# Altium footprint library IC_SMT.PcbLib: 81 footprints (part 5 of 6)
Each footprint in its own frame and in the unit in brackets; x right, y up, seen from the top. Pads: shape width x height; smd on the part's side, far side on the other; paste and mask are expansions set on the pad; w line width, h text height; cw(c..) or ccw(c..) is an arc to the next point about the centre after c.
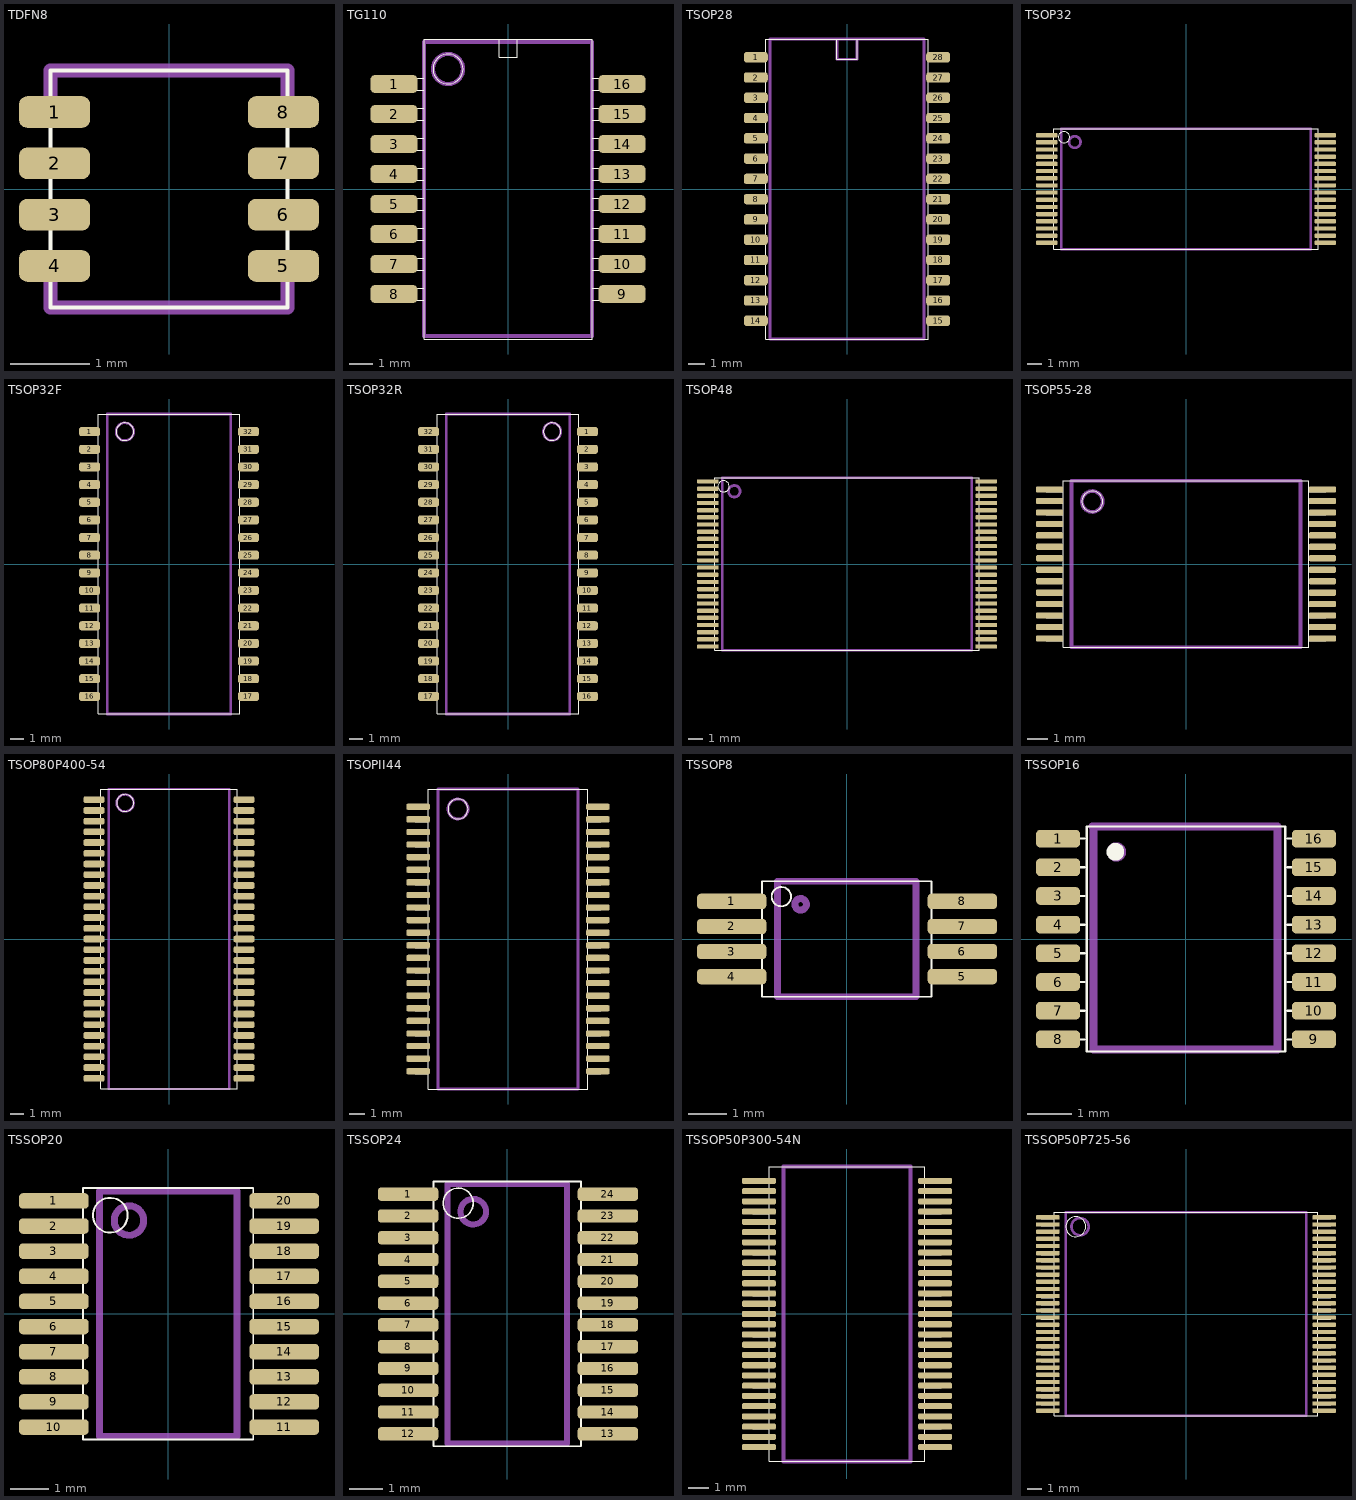
[diagram p4: the footprints below, top view; thin cyan lines are the x and y axes]

## TDFN8 [mm]
height 1.905
pads (8):
  rrect50% 0.9x0.4 smd paste+0: 1(-1.45,0.975) 2(-1.45,0.325) 3(-1.45,-0.325) 4(-1.45,-0.975) 5(1.45,-0.975) 6(1.45,-0.325) 7(1.45,0.325) 8(1.45,0.975)
Top Overlay:
  lines w0.05: -1.5,-1.5 1.5,-1.5 1.5,1.5 -1.5,1.5 -1.5,-1.5
Comp Silk:
  lines w0.18: -1.5,-1.2 -1.5,-1.5 1.5,-1.5 1.5,-1.2 ; -1.5,1.2 -1.5,1.5 1.5,1.5 1.5,1.2
  text ".Designator" at -1.397,0.381 h1.5

## TG110 [mm]
height 2.54
pads (16):
  rrect50% 2x0.75 smd paste+0: 1(-4.826,4.445) 2(-4.826,3.175) 3(-4.826,1.905) 4(-4.826,0.635) 5(-4.826,-0.635) 6(-4.826,-1.905) 7(-4.826,-3.175) 8(-4.826,-4.445) 9(4.826,-4.445) 10(4.826,-3.175) 11(4.826,-1.905) 12(4.826,-0.635) 13(4.826,0.635) 14(4.826,1.905) 15(4.826,3.175) 16(4.826,4.445)
Top Overlay:
  circle w0.05: c-2.54,5.08 r0.635
  lines w0.05: -3.556,-4.699 -4.826,-4.699 -4.826,-4.191 -3.556,-4.191 ; -3.556,-3.429 -4.826,-3.429 -4.826,-2.921 -3.556,-2.921 ; -3.556,-2.159 -4.826,-2.159 -4.826,-1.651 -3.556,-1.651 ; -3.556,-0.889 -4.826,-0.889 -4.826,-0.381 -3.556,-0.381 ; -3.556,0.381 -4.826,0.381 -4.826,0.889 -3.556,0.889 ; -3.556,1.651 -4.826,1.651 -4.826,2.159 -3.556,2.159 ; -3.556,2.921 -4.826,2.921 -4.826,3.429 -3.556,3.429 ; -3.556,4.191 -4.826,4.191 -4.826,4.699 -3.556,4.699 ; -0.381,6.35 -0.381,5.588 0.381,5.588 0.381,6.35 ; 3.556,-4.699 4.826,-4.699 4.826,-4.191 3.556,-4.191 ; 3.556,-3.429 4.826,-3.429 4.826,-2.921 3.556,-2.921 ; 3.556,-2.159 4.826,-2.159 4.826,-1.651 3.556,-1.651 ; 3.556,-0.889 4.826,-0.889 4.826,-0.381 3.556,-0.381 ; 3.556,0.381 4.826,0.381 4.826,0.889 3.556,0.889 ; 3.556,1.651 4.826,1.651 4.826,2.159 3.556,2.159 ; 3.556,2.921 4.826,2.921 4.826,3.429 3.556,3.429 ; 3.556,4.191 4.826,4.191 4.826,4.699 3.556,4.699 ; -3.556,-6.35 -3.556,6.35 3.556,6.35 3.556,-6.35 -3.556,-6.35
Comp Silk:
  circle w0.18: c-2.54,5.08 r0.635
  lines w0.18: -3.556,-6.223 -3.556,6.223 3.556,6.223 3.556,-6.223 -3.556,-6.223
  text ".Designator" at -1.651,-5.334 h1.5

## TSOP28 [mm]
height 1.27
pads (28):
  rrect50% 1.5x0.65 smd paste+0: 1(-5.715,8.255) 2(-5.715,6.985) 3(-5.715,5.715) 4(-5.715,4.445) 5(-5.715,3.175) 6(-5.715,1.905) 7(-5.715,0.635) 8(-5.715,-0.635) 9(-5.715,-1.905) 10(-5.715,-3.175) 11(-5.715,-4.445) 12(-5.715,-5.715) 13(-5.715,-6.985) 14(-5.715,-8.255) 15(5.715,-8.255) 16(5.715,-6.985) 17(5.715,-5.715) 18(5.715,-4.445) 19(5.715,-3.175) 20(5.715,-1.905) 21(5.715,-0.635) 22(5.715,0.635) 23(5.715,1.905) 24(5.715,3.175) 25(5.715,4.445) 26(5.715,5.715) 27(5.715,6.985) 28(5.715,8.255)
Top Overlay:
  lines w0.05: -5.08,-8.458 -5.969,-8.458 -5.969,-8.052 -5.08,-8.052 ; -5.08,-7.188 -5.969,-7.188 -5.969,-6.782 -5.08,-6.782 ; -5.08,-5.918 -5.969,-5.918 -5.969,-5.512 -5.08,-5.512 ; -5.08,-4.648 -5.969,-4.648 -5.969,-4.242 -5.08,-4.242 ; -5.08,-3.378 -5.969,-3.378 -5.969,-2.972 -5.08,-2.972 ; -5.08,-2.108 -5.969,-2.108 -5.969,-1.702 -5.08,-1.702 ; -5.08,-0.838 -5.969,-0.838 -5.969,-0.432 -5.08,-0.432 ; -5.08,0.432 -5.969,0.432 -5.969,0.838 -5.08,0.838 ; -5.08,1.702 -5.969,1.702 -5.969,2.108 -5.08,2.108 ; -5.08,2.972 -5.969,2.972 -5.969,3.378 -5.08,3.378 ; -5.08,4.242 -5.969,4.242 -5.969,4.648 -5.08,4.648 ; -5.08,5.512 -5.969,5.512 -5.969,5.918 -5.08,5.918 ; -5.08,6.782 -5.969,6.782 -5.969,7.188 -5.08,7.188 ; -5.08,8.052 -5.969,8.052 -5.969,8.458 -5.08,8.458 ; -0.635,9.398 -0.635,8.128 0.635,8.128 0.635,9.398 ; 5.08,-8.458 5.969,-8.458 5.969,-8.052 5.08,-8.052 ; 5.08,-7.188 5.969,-7.188 5.969,-6.782 5.08,-6.782 ; 5.08,-5.918 5.969,-5.918 5.969,-5.512 5.08,-5.512 ; 5.08,-4.648 5.969,-4.648 5.969,-4.242 5.08,-4.242 ; 5.08,-3.378 5.969,-3.378 5.969,-2.972 5.08,-2.972 ; 5.08,-2.108 5.969,-2.108 5.969,-1.702 5.08,-1.702 ; 5.08,-0.838 5.969,-0.838 5.969,-0.432 5.08,-0.432 ; 5.08,0.432 5.969,0.432 5.969,0.838 5.08,0.838 ; 5.08,1.702 5.969,1.702 5.969,2.108 5.08,2.108 ; 5.08,2.972 5.969,2.972 5.969,3.378 5.08,3.378 ; 5.08,4.242 5.969,4.242 5.969,4.648 5.08,4.648 ; 5.08,5.512 5.969,5.512 5.969,5.918 5.08,5.918 ; 5.08,6.782 5.969,6.782 5.969,7.188 5.08,7.188 ; 5.08,8.052 5.969,8.052 5.969,8.458 5.08,8.458 ; -5.08,-9.398 -5.08,9.398 5.08,9.398 5.08,-9.398 -5.08,-9.398
Comp Silk:
  lines w0.18: -0.635,9.398 -0.635,8.128 0.635,8.128 0.635,9.398 ; -4.826,-9.398 -4.826,9.398 4.826,9.398 4.826,-9.398 -4.826,-9.398
  text ".Designator" at -2.921,-8.128 h1.5

## TSOP32 [mm]
height 1.27
pads (32):
  rrect50% 1.5x0.3 smd paste+0: 1(-9.7,3.75) 2(-9.7,3.25) 3(-9.7,2.75) 4(-9.7,2.25) 5(-9.7,1.75) 6(-9.7,1.25) 7(-9.7,0.75) 8(-9.7,0.25) 9(-9.7,-0.25) 10(-9.7,-0.75) 11(-9.7,-1.25) 12(-9.7,-1.75) 13(-9.7,-2.25) 14(-9.7,-2.75) 15(-9.7,-3.25) 16(-9.7,-3.75) 17(9.7,-3.75) 18(9.7,-3.25) 19(9.7,-2.75) 20(9.7,-2.25) 21(9.7,-1.75) 22(9.7,-1.25) 23(9.7,-0.75) 24(9.7,-0.25) 25(9.7,0.25) 26(9.7,0.75) 27(9.7,1.25) 28(9.7,1.75) 29(9.7,2.25) 30(9.7,2.75) 31(9.7,3.25) 32(9.7,3.75)
Top Overlay:
  lines w0.05: -9.2,-3.8 -9.8,-3.8 -9.8,-3.7 -9.2,-3.7 ; -9.2,-3.3 -9.8,-3.3 -9.8,-3.2 -9.2,-3.2 ; -9.2,-2.8 -9.8,-2.8 -9.8,-2.7 -9.2,-2.7 ; -9.2,-2.3 -9.8,-2.3 -9.8,-2.2 -9.2,-2.2 ; -9.2,-1.8 -9.8,-1.8 -9.8,-1.7 -9.2,-1.7 ; -9.2,-1.3 -9.8,-1.3 -9.8,-1.2 -9.2,-1.2 ; -9.2,-0.8 -9.8,-0.8 -9.8,-0.7 -9.2,-0.7 ; -9.2,-0.3 -9.8,-0.3 -9.8,-0.2 -9.2,-0.2 ; -9.2,0.2 -9.8,0.2 -9.8,0.3 -9.2,0.3 ; -9.2,0.7 -9.8,0.7 -9.8,0.8 -9.2,0.8 ; -9.2,1.2 -9.8,1.2 -9.8,1.3 -9.2,1.3 ; -9.2,1.7 -9.8,1.7 -9.8,1.8 -9.2,1.8 ; -9.2,2.2 -9.8,2.2 -9.8,2.3 -9.2,2.3 ; -9.2,2.7 -9.8,2.7 -9.8,2.8 -9.2,2.8 ; -9.2,3.2 -9.8,3.2 -9.8,3.3 -9.2,3.3 ; -9.2,3.7 -9.8,3.7 -9.8,3.8 -9.2,3.8 ; -8.9,3.6 cw(c-8.5,3.6) -8.1,3.6 ; -8.896,3.62 ccw(c-8.496,3.62) -8.096,3.62 ; 9.2,-3.8 9.8,-3.8 9.8,-3.7 9.2,-3.7 ; 9.2,-3.3 9.8,-3.3 9.8,-3.2 9.2,-3.2 ; 9.2,-2.8 9.8,-2.8 9.8,-2.7 9.2,-2.7 ; 9.2,-2.3 9.8,-2.3 9.8,-2.2 9.2,-2.2 ; 9.2,-1.8 9.8,-1.8 9.8,-1.7 9.2,-1.7 ; 9.2,-1.3 9.8,-1.3 9.8,-1.2 9.2,-1.2 ; 9.2,-0.8 9.8,-0.8 9.8,-0.7 9.2,-0.7 ; 9.2,-0.3 9.8,-0.3 9.8,-0.2 9.2,-0.2 ; 9.2,0.2 9.8,0.2 9.8,0.3 9.2,0.3 ; 9.2,0.7 9.8,0.7 9.8,0.8 9.2,0.8 ; 9.2,1.2 9.8,1.2 9.8,1.3 9.2,1.3 ; 9.2,1.7 9.8,1.7 9.8,1.8 9.2,1.8 ; 9.2,2.2 9.8,2.2 9.8,2.3 9.2,2.3 ; 9.2,2.7 9.8,2.7 9.8,2.8 9.2,2.8 ; 9.2,3.2 9.8,3.2 9.8,3.3 9.2,3.3 ; 9.2,3.7 9.8,3.7 9.8,3.8 9.2,3.8 ; -9.2,-4.2 9.2,-4.2 9.2,4.2 -9.2,4.2 -9.2,-4.2
Comp Silk:
  lines w0.18: -8.151,3.265 ccw(c-7.751,3.265) -7.351,3.265 ; -8.146,3.27 cw(c-7.746,3.27) -7.346,3.27 ; -8.7,-4.2 8.7,-4.2 8.7,4.2 -8.7,4.2 -8.7,-4.2
  text ".Designator" at -6.35,2.54 h1.5

## TSOP32F [mm]
height 1.27
pads (32):
  rrect50% 1.5x0.65 smd paste+0: 1(-5.715,9.525) 2(-5.715,8.255) 3(-5.715,6.985) 4(-5.715,5.715) 5(-5.715,4.445) 6(-5.715,3.175) 7(-5.715,1.905) 8(-5.715,0.635) 9(-5.715,-0.635) 10(-5.715,-1.905) 11(-5.715,-3.175) 12(-5.715,-4.445) 13(-5.715,-5.715) 14(-5.715,-6.985) 15(-5.715,-8.255) 16(-5.715,-9.525) 17(5.715,-9.525) 18(5.715,-8.255) 19(5.715,-6.985) 20(5.715,-5.715) 21(5.715,-4.445) 22(5.715,-3.175) 23(5.715,-1.905) 24(5.715,-0.635) 25(5.715,0.635) 26(5.715,1.905) 27(5.715,3.175) 28(5.715,4.445) 29(5.715,5.715) 30(5.715,6.985) 31(5.715,8.255) 32(5.715,9.525)
Top Overlay:
  circle w0.05: c-3.175,9.525 r0.635
  lines w0.05: -5.08,-9.728 -5.969,-9.728 -5.969,-9.322 -5.08,-9.322 ; -5.08,-8.458 -5.969,-8.458 -5.969,-8.052 -5.08,-8.052 ; -5.08,-7.188 -5.969,-7.188 -5.969,-6.782 -5.08,-6.782 ; -5.08,-5.918 -5.969,-5.918 -5.969,-5.512 -5.08,-5.512 ; -5.08,-4.648 -5.969,-4.648 -5.969,-4.242 -5.08,-4.242 ; -5.08,-3.378 -5.969,-3.378 -5.969,-2.972 -5.08,-2.972 ; -5.08,-2.108 -5.969,-2.108 -5.969,-1.702 -5.08,-1.702 ; -5.08,-0.838 -5.969,-0.838 -5.969,-0.432 -5.08,-0.432 ; -5.08,0.432 -5.969,0.432 -5.969,0.838 -5.08,0.838 ; -5.08,1.702 -5.969,1.702 -5.969,2.108 -5.08,2.108 ; -5.08,2.972 -5.969,2.972 -5.969,3.378 -5.08,3.378 ; -5.08,4.242 -5.969,4.242 -5.969,4.648 -5.08,4.648 ; -5.08,5.512 -5.969,5.512 -5.969,5.918 -5.08,5.918 ; -5.08,6.782 -5.969,6.782 -5.969,7.188 -5.08,7.188 ; -5.08,8.052 -5.969,8.052 -5.969,8.458 -5.08,8.458 ; -5.08,9.322 -5.969,9.322 -5.969,9.728 -5.08,9.728 ; 5.08,-9.728 5.969,-9.728 5.969,-9.322 5.08,-9.322 ; 5.08,-8.458 5.969,-8.458 5.969,-8.052 5.08,-8.052 ; 5.08,-7.188 5.969,-7.188 5.969,-6.782 5.08,-6.782 ; 5.08,-5.918 5.969,-5.918 5.969,-5.512 5.08,-5.512 ; 5.08,-4.648 5.969,-4.648 5.969,-4.242 5.08,-4.242 ; 5.08,-3.378 5.969,-3.378 5.969,-2.972 5.08,-2.972 ; 5.08,-2.108 5.969,-2.108 5.969,-1.702 5.08,-1.702 ; 5.08,-0.838 5.969,-0.838 5.969,-0.432 5.08,-0.432 ; 5.08,0.432 5.969,0.432 5.969,0.838 5.08,0.838 ; 5.08,1.702 5.969,1.702 5.969,2.108 5.08,2.108 ; 5.08,2.972 5.969,2.972 5.969,3.378 5.08,3.378 ; 5.08,4.242 5.969,4.242 5.969,4.648 5.08,4.648 ; 5.08,5.512 5.969,5.512 5.969,5.918 5.08,5.918 ; 5.08,6.782 5.969,6.782 5.969,7.188 5.08,7.188 ; 5.08,8.052 5.969,8.052 5.969,8.458 5.08,8.458 ; 5.08,9.322 5.969,9.322 5.969,9.728 5.08,9.728 ; -5.08,-10.795 -5.08,10.795 5.08,10.795 5.08,-10.795 -5.08,-10.795
Comp Silk:
  circle w0.18: c-3.175,9.525 r0.635
  lines w0.18: -4.445,-10.795 -4.445,10.795 4.445,10.795 4.445,-10.795 -4.445,-10.795
  text ".Designator" at -2.413,-7.366 h1.5

## TSOP32R [mm]
height 1.27
pads (32):
  rrect50% 1.5x0.65 smd paste+0: 1(5.715,9.525) 2(5.715,8.255) 3(5.715,6.985) 4(5.715,5.715) 5(5.715,4.445) 6(5.715,3.175) 7(5.715,1.905) 8(5.715,0.635) 9(5.715,-0.635) 10(5.715,-1.905) 11(5.715,-3.175) 12(5.715,-4.445) 13(5.715,-5.715) 14(5.715,-6.985) 15(5.715,-8.255) 16(5.715,-9.525) 17(-5.715,-9.525) 18(-5.715,-8.255) 19(-5.715,-6.985) 20(-5.715,-5.715) 21(-5.715,-4.445) 22(-5.715,-3.175) 23(-5.715,-1.905) 24(-5.715,-0.635) 25(-5.715,0.635) 26(-5.715,1.905) 27(-5.715,3.175) 28(-5.715,4.445) 29(-5.715,5.715) 30(-5.715,6.985) 31(-5.715,8.255) 32(-5.715,9.525)
Top Overlay:
  circle w0.05: c3.175,9.525 r0.635
  lines w0.05: -5.08,-9.728 -5.969,-9.728 -5.969,-9.322 -5.08,-9.322 ; -5.08,-8.458 -5.969,-8.458 -5.969,-8.052 -5.08,-8.052 ; -5.08,-7.188 -5.969,-7.188 -5.969,-6.782 -5.08,-6.782 ; -5.08,-5.918 -5.969,-5.918 -5.969,-5.512 -5.08,-5.512 ; -5.08,-4.648 -5.969,-4.648 -5.969,-4.242 -5.08,-4.242 ; -5.08,-3.378 -5.969,-3.378 -5.969,-2.972 -5.08,-2.972 ; -5.08,-2.108 -5.969,-2.108 -5.969,-1.702 -5.08,-1.702 ; -5.08,-0.838 -5.969,-0.838 -5.969,-0.432 -5.08,-0.432 ; -5.08,0.432 -5.969,0.432 -5.969,0.838 -5.08,0.838 ; -5.08,1.702 -5.969,1.702 -5.969,2.108 -5.08,2.108 ; -5.08,2.972 -5.969,2.972 -5.969,3.378 -5.08,3.378 ; -5.08,4.242 -5.969,4.242 -5.969,4.648 -5.08,4.648 ; -5.08,5.512 -5.969,5.512 -5.969,5.918 -5.08,5.918 ; -5.08,6.782 -5.969,6.782 -5.969,7.188 -5.08,7.188 ; -5.08,8.052 -5.969,8.052 -5.969,8.458 -5.08,8.458 ; -5.08,9.322 -5.969,9.322 -5.969,9.728 -5.08,9.728 ; 5.08,-9.728 5.969,-9.728 5.969,-9.322 5.08,-9.322 ; 5.08,-8.458 5.969,-8.458 5.969,-8.052 5.08,-8.052 ; 5.08,-7.188 5.969,-7.188 5.969,-6.782 5.08,-6.782 ; 5.08,-5.918 5.969,-5.918 5.969,-5.512 5.08,-5.512 ; 5.08,-4.648 5.969,-4.648 5.969,-4.242 5.08,-4.242 ; 5.08,-3.378 5.969,-3.378 5.969,-2.972 5.08,-2.972 ; 5.08,-2.108 5.969,-2.108 5.969,-1.702 5.08,-1.702 ; 5.08,-0.838 5.969,-0.838 5.969,-0.432 5.08,-0.432 ; 5.08,0.432 5.969,0.432 5.969,0.838 5.08,0.838 ; 5.08,1.702 5.969,1.702 5.969,2.108 5.08,2.108 ; 5.08,2.972 5.969,2.972 5.969,3.378 5.08,3.378 ; 5.08,4.242 5.969,4.242 5.969,4.648 5.08,4.648 ; 5.08,5.512 5.969,5.512 5.969,5.918 5.08,5.918 ; 5.08,6.782 5.969,6.782 5.969,7.188 5.08,7.188 ; 5.08,8.052 5.969,8.052 5.969,8.458 5.08,8.458 ; 5.08,9.322 5.969,9.322 5.969,9.728 5.08,9.728 ; -5.08,-10.795 5.08,-10.795 5.08,10.795 -5.08,10.795 -5.08,-10.795
Comp Silk:
  circle w0.18: c3.175,9.525 r0.635
  lines w0.18: -4.445,-10.795 4.445,-10.795 4.445,10.795 -4.445,10.795 -4.445,-10.795
  text ".Designator" at -2.286,-8.509 h1.5

## TSOP48 [mm]
height 1.27
pads (48):
  rrect50% 1.5x0.3 smd paste+0: 1(-9.7,5.75) 2(-9.7,5.25) 3(-9.7,4.75) 4(-9.7,4.25) 5(-9.7,3.75) 6(-9.7,3.25) 7(-9.7,2.75) 8(-9.7,2.25) 9(-9.7,1.75) 10(-9.7,1.25) 11(-9.7,0.75) 12(-9.7,0.25) 13(-9.7,-0.25) 14(-9.7,-0.75) 15(-9.7,-1.25) 16(-9.7,-1.75) 17(-9.7,-2.25) 18(-9.7,-2.75) 19(-9.7,-3.25) 20(-9.7,-3.75) 21(-9.7,-4.25) 22(-9.7,-4.75) 23(-9.7,-5.25) 24(-9.7,-5.75) 25(9.7,-5.75) 26(9.7,-5.25) 27(9.7,-4.75) 28(9.7,-4.25) 29(9.7,-3.75) 30(9.7,-3.25) 31(9.7,-2.75) 32(9.7,-2.25) 33(9.7,-1.75) 34(9.7,-1.25) 35(9.7,-0.75) 36(9.7,-0.25) 37(9.7,0.25) 38(9.7,0.75) 39(9.7,1.25) 40(9.7,1.75) 41(9.7,2.25) 42(9.7,2.75) 43(9.7,3.25) 44(9.7,3.75) 45(9.7,4.25) 46(9.7,4.75) 47(9.7,5.25) 48(9.7,5.75)
Top Overlay:
  lines w0.05: -9.2,-5.8 -9.8,-5.8 -9.8,-5.7 -9.2,-5.7 ; -9.2,-5.3 -9.8,-5.3 -9.8,-5.2 -9.2,-5.2 ; -9.2,-4.8 -9.8,-4.8 -9.8,-4.7 -9.2,-4.7 ; -9.2,-4.3 -9.8,-4.3 -9.8,-4.2 -9.2,-4.2 ; -9.2,-3.8 -9.8,-3.8 -9.8,-3.7 -9.2,-3.7 ; -9.2,-3.3 -9.8,-3.3 -9.8,-3.2 -9.2,-3.2 ; -9.2,-2.8 -9.8,-2.8 -9.8,-2.7 -9.2,-2.7 ; -9.2,-2.3 -9.8,-2.3 -9.8,-2.2 -9.2,-2.2 ; -9.2,-1.8 -9.8,-1.8 -9.8,-1.7 -9.2,-1.7 ; -9.2,-1.3 -9.8,-1.3 -9.8,-1.2 -9.2,-1.2 ; -9.2,-0.8 -9.8,-0.8 -9.8,-0.7 -9.2,-0.7 ; -9.2,-0.3 -9.8,-0.3 -9.8,-0.2 -9.2,-0.2 ; -9.2,0.2 -9.8,0.2 -9.8,0.3 -9.2,0.3 ; -9.2,0.7 -9.8,0.7 -9.8,0.8 -9.2,0.8 ; -9.2,1.2 -9.8,1.2 -9.8,1.3 -9.2,1.3 ; -9.2,1.7 -9.8,1.7 -9.8,1.8 -9.2,1.8 ; -9.2,2.2 -9.8,2.2 -9.8,2.3 -9.2,2.3 ; -9.2,2.7 -9.8,2.7 -9.8,2.8 -9.2,2.8 ; -9.2,3.2 -9.8,3.2 -9.8,3.3 -9.2,3.3 ; -9.2,3.7 -9.8,3.7 -9.8,3.8 -9.2,3.8 ; -9.2,4.2 -9.8,4.2 -9.8,4.3 -9.2,4.3 ; -9.2,4.7 -9.8,4.7 -9.8,4.8 -9.2,4.8 ; -9.2,5.2 -9.8,5.2 -9.8,5.3 -9.2,5.3 ; -9.2,5.7 -9.8,5.7 -9.8,5.8 -9.2,5.8 ; -9,5.4 cw(c-8.6,5.4) -8.2,5.4 ; -8.996,5.42 ccw(c-8.596,5.42) -8.196,5.42 ; 9.2,-5.8 9.8,-5.8 9.8,-5.7 9.2,-5.7 ; 9.2,-5.3 9.8,-5.3 9.8,-5.2 9.2,-5.2 ; 9.2,-4.8 9.8,-4.8 9.8,-4.7 9.2,-4.7 ; 9.2,-4.3 9.8,-4.3 9.8,-4.2 9.2,-4.2 ; 9.2,-3.8 9.8,-3.8 9.8,-3.7 9.2,-3.7 ; 9.2,-3.3 9.8,-3.3 9.8,-3.2 9.2,-3.2 ; 9.2,-2.8 9.8,-2.8 9.8,-2.7 9.2,-2.7 ; 9.2,-2.3 9.8,-2.3 9.8,-2.2 9.2,-2.2 ; 9.2,-1.8 9.8,-1.8 9.8,-1.7 9.2,-1.7 ; 9.2,-1.3 9.8,-1.3 9.8,-1.2 9.2,-1.2 ; 9.2,-0.8 9.8,-0.8 9.8,-0.7 9.2,-0.7 ; 9.2,-0.3 9.8,-0.3 9.8,-0.2 9.2,-0.2 ; 9.2,0.2 9.8,0.2 9.8,0.3 9.2,0.3 ; 9.2,0.7 9.8,0.7 9.8,0.8 9.2,0.8 ; 9.2,1.2 9.8,1.2 9.8,1.3 9.2,1.3 ; 9.2,1.7 9.8,1.7 9.8,1.8 9.2,1.8 ; 9.2,2.2 9.8,2.2 9.8,2.3 9.2,2.3 ; 9.2,2.7 9.8,2.7 9.8,2.8 9.2,2.8 ; 9.2,3.2 9.8,3.2 9.8,3.3 9.2,3.3 ; 9.2,3.7 9.8,3.7 9.8,3.8 9.2,3.8 ; 9.2,4.2 9.8,4.2 9.8,4.3 9.2,4.3 ; 9.2,4.7 9.8,4.7 9.8,4.8 9.2,4.8 ; 9.2,5.2 9.8,5.2 9.8,5.3 9.2,5.3 ; 9.2,5.7 9.8,5.7 9.8,5.8 9.2,5.8 ; -9.2,-6 -9.2,6 9.2,6 9.2,-6 -9.2,-6
Comp Silk:
  lines w0.18: -8.251,5.065 ccw(c-7.851,5.065) -7.451,5.065 ; -8.246,5.07 cw(c-7.846,5.07) -7.446,5.07 ; -8.7,-6 8.7,-6 8.7,6 -8.7,6 -8.7,-6
  text ".Designator" at -6.477,3.937 h1.5

## TSOP55-28 [mm]
height 1.27
pads (28):
  rrect50% 1.3x0.3 smd paste+0: 1(-6.55,3.575) 2(-6.55,3.025) 3(-6.55,2.475) 4(-6.55,1.925) 5(-6.55,1.375) 6(-6.55,0.825) 7(-6.55,0.275) 8(-6.55,-0.275) 9(-6.55,-0.825) 10(-6.55,-1.375) 11(-6.55,-1.925) 12(-6.55,-2.475) 13(-6.55,-3.025) 14(-6.55,-3.575) 15(6.55,-3.575) 16(6.55,-3.025) 17(6.55,-2.475) 18(6.55,-1.925) 19(6.55,-1.375) 20(6.55,-0.825) 21(6.55,-0.275) 22(6.55,0.275) 23(6.55,0.825) 24(6.55,1.375) 25(6.55,1.925) 26(6.55,2.475) 27(6.55,3.025) 28(6.55,3.575)
Top Overlay:
  circle w0.05: c-4.5,3 r0.5
  lines w0.05: -5.9,-3.675 -6.7,-3.675 -6.7,-3.475 -5.9,-3.475 ; -5.9,-3.125 -6.7,-3.125 -6.7,-2.925 -5.9,-2.925 ; -5.9,-2.575 -6.7,-2.575 -6.7,-2.375 -5.9,-2.375 ; -5.9,-2.025 -6.7,-2.025 -6.7,-1.825 -5.9,-1.825 ; -5.9,-1.475 -6.7,-1.475 -6.7,-1.275 -5.9,-1.275 ; -5.9,-0.925 -6.7,-0.925 -6.7,-0.725 -5.9,-0.725 ; -5.9,-0.375 -6.7,-0.375 -6.7,-0.175 -5.9,-0.175 ; -5.9,0.175 -6.7,0.175 -6.7,0.375 -5.9,0.375 ; -5.9,0.725 -6.7,0.725 -6.7,0.925 -5.9,0.925 ; -5.9,1.275 -6.7,1.275 -6.7,1.475 -5.9,1.475 ; -5.9,1.825 -6.7,1.825 -6.7,2.025 -5.9,2.025 ; -5.9,2.375 -6.7,2.375 -6.7,2.575 -5.9,2.575 ; -5.9,2.925 -6.7,2.925 -6.7,3.125 -5.9,3.125 ; -5.9,3.475 -6.7,3.475 -6.7,3.675 -5.9,3.675 ; 5.9,-3.675 6.7,-3.675 6.7,-3.475 5.9,-3.475 ; 5.9,-3.125 6.7,-3.125 6.7,-2.925 5.9,-2.925 ; 5.9,-2.575 6.7,-2.575 6.7,-2.375 5.9,-2.375 ; 5.9,-2.025 6.7,-2.025 6.7,-1.825 5.9,-1.825 ; 5.9,-1.475 6.7,-1.475 6.7,-1.275 5.9,-1.275 ; 5.9,-0.925 6.7,-0.925 6.7,-0.725 5.9,-0.725 ; 5.9,-0.375 6.7,-0.375 6.7,-0.175 5.9,-0.175 ; 5.9,0.175 6.7,0.175 6.7,0.375 5.9,0.375 ; 5.9,0.725 6.7,0.725 6.7,0.925 5.9,0.925 ; 5.9,1.275 6.7,1.275 6.7,1.475 5.9,1.475 ; 5.9,1.825 6.7,1.825 6.7,2.025 5.9,2.025 ; 5.9,2.375 6.7,2.375 6.7,2.575 5.9,2.575 ; 5.9,2.925 6.7,2.925 6.7,3.125 5.9,3.125 ; 5.9,3.475 6.7,3.475 6.7,3.675 5.9,3.675 ; -5.9,-4 5.9,-4 5.9,4 -5.9,4 -5.9,-4
Comp Silk:
  circle w0.18: c-4.5,3 r0.5
  lines w0.18: -5.5,-4 5.5,-4 5.5,4 -5.5,4 -5.5,-4
  text ".Designator" at -5.08,1.905 h1.5

## TSOP80P400-54 [mm]
height 1.27
pads (54):
  rrect50% 1.55x0.5 smd paste+0: 1(-5.6,10.4) 2(-5.6,9.6) 3(-5.6,8.8) 4(-5.6,8) 5(-5.6,7.2) 6(-5.6,6.4) 7(-5.6,5.6) 8(-5.6,4.8) 9(-5.6,4) 10(-5.6,3.2) 11(-5.6,2.4) 12(-5.6,1.6) 13(-5.6,0.8) 14(-5.6,0) 15(-5.6,-0.8) 16(-5.6,-1.6) 17(-5.6,-2.4) 18(-5.6,-3.2) 19(-5.6,-4) 20(-5.6,-4.8) 21(-5.6,-5.6) 22(-5.6,-6.4) 23(-5.6,-7.2) 24(-5.6,-8) 25(-5.6,-8.8) 26(-5.6,-9.6) 27(-5.6,-10.4) 28(5.6,-10.4) 29(5.6,-9.6) 30(5.6,-8.8) 31(5.6,-8) 32(5.6,-7.2) 33(5.6,-6.4) 34(5.6,-5.6) 35(5.6,-4.8) 36(5.6,-4) 37(5.6,-3.2) 38(5.6,-2.4) 39(5.6,-1.6) 40(5.6,-0.8) 41(5.6,0) 42(5.6,0.8) 43(5.6,1.6) 44(5.6,2.4) 45(5.6,3.2) 46(5.6,4) 47(5.6,4.8) 48(5.6,5.6) 49(5.6,6.4) 50(5.6,7.2) 51(5.6,8) 52(5.6,8.8) 53(5.6,9.6) 54(5.6,10.4)
Top Overlay:
  drawing of 167 lines, arcs and shapes, not listed
Comp Silk:
  circle w0.18: c-3.275,10.155 r0.635
  lines w0.18: -4.5,-11.2 -4.5,11.2 4.5,11.2 4.5,-11.2 -4.5,-11.2
  text ".Designator" at -2.159,-6.604 h1.5

## TSOPII44 [mm]
height 1.905
pads (44):
  rrect50% 1.5x0.4 smd paste+0: 1(-5.7,8.4) 2(-5.7,7.6) 3(-5.7,6.8) 4(-5.7,6) 5(-5.7,5.2) 6(-5.7,4.4) 7(-5.7,3.6) 8(-5.7,2.8) 9(-5.7,2) 10(-5.7,1.2) 11(-5.7,0.4) 12(-5.7,-0.4) 13(-5.7,-1.2) 14(-5.7,-2) 15(-5.7,-2.8) 16(-5.7,-3.6) 17(-5.7,-4.4) 18(-5.7,-5.2) 19(-5.7,-6) 20(-5.7,-6.8) 21(-5.7,-7.6) 22(-5.7,-8.4) 23(5.7,-8.4) 24(5.7,-7.6) 25(5.7,-6.8) 26(5.7,-6) 27(5.7,-5.2) 28(5.7,-4.4) 29(5.7,-3.6) 30(5.7,-2.8) 31(5.7,-2) 32(5.7,-1.2) 33(5.7,-0.4) 34(5.7,0.4) 35(5.7,1.2) 36(5.7,2) 37(5.7,2.8) 38(5.7,3.6) 39(5.7,4.4) 40(5.7,5.2) 41(5.7,6) 42(5.7,6.8) 43(5.7,7.6) 44(5.7,8.4)
Top Overlay:
  circle w0.05: c-3.175,8.255 r0.635
  lines w0.05: -5.1,-8.55 -5.9,-8.55 -5.9,-8.25 -5.1,-8.25 ; -5.1,-7.75 -5.9,-7.75 -5.9,-7.45 -5.1,-7.45 ; -5.1,-6.95 -5.9,-6.95 -5.9,-6.65 -5.1,-6.65 ; -5.1,-6.15 -5.9,-6.15 -5.9,-5.85 -5.1,-5.85 ; -5.1,-5.35 -5.9,-5.35 -5.9,-5.05 -5.1,-5.05 ; -5.1,-4.55 -5.9,-4.55 -5.9,-4.25 -5.1,-4.25 ; -5.1,-3.75 -5.9,-3.75 -5.9,-3.45 -5.1,-3.45 ; -5.1,-2.95 -5.9,-2.95 -5.9,-2.65 -5.1,-2.65 ; -5.1,-2.15 -5.9,-2.15 -5.9,-1.85 -5.1,-1.85 ; -5.1,-1.35 -5.9,-1.35 -5.9,-1.05 -5.1,-1.05 ; -5.1,-0.55 -5.9,-0.55 -5.9,-0.25 -5.1,-0.25 ; -5.1,0.25 -5.9,0.25 -5.9,0.55 -5.1,0.55 ; -5.1,1.05 -5.9,1.05 -5.9,1.35 -5.1,1.35 ; -5.1,1.85 -5.9,1.85 -5.9,2.15 -5.1,2.15 ; -5.1,2.65 -5.9,2.65 -5.9,2.95 -5.1,2.95 ; -5.1,3.45 -5.9,3.45 -5.9,3.75 -5.1,3.75 ; -5.1,4.25 -5.9,4.25 -5.9,4.55 -5.1,4.55 ; -5.1,5.05 -5.9,5.05 -5.9,5.35 -5.1,5.35 ; -5.1,5.85 -5.9,5.85 -5.9,6.15 -5.1,6.15 ; -5.1,6.65 -5.9,6.65 -5.9,6.95 -5.1,6.95 ; -5.1,7.45 -5.9,7.45 -5.9,7.75 -5.1,7.75 ; -5.1,8.25 -5.9,8.25 -5.9,8.55 -5.1,8.55 ; 5.1,-8.55 5.9,-8.55 5.9,-8.25 5.1,-8.25 ; 5.1,-7.75 5.9,-7.75 5.9,-7.45 5.1,-7.45 ; 5.1,-6.95 5.9,-6.95 5.9,-6.65 5.1,-6.65 ; 5.1,-6.15 5.9,-6.15 5.9,-5.85 5.1,-5.85 ; 5.1,-5.35 5.9,-5.35 5.9,-5.05 5.1,-5.05 ; 5.1,-4.55 5.9,-4.55 5.9,-4.25 5.1,-4.25 ; 5.1,-3.75 5.9,-3.75 5.9,-3.45 5.1,-3.45 ; 5.1,-2.95 5.9,-2.95 5.9,-2.65 5.1,-2.65 ; 5.1,-2.15 5.9,-2.15 5.9,-1.85 5.1,-1.85 ; 5.1,-1.35 5.9,-1.35 5.9,-1.05 5.1,-1.05 ; 5.1,-0.55 5.9,-0.55 5.9,-0.25 5.1,-0.25 ; 5.1,0.25 5.9,0.25 5.9,0.55 5.1,0.55 ; 5.1,1.05 5.9,1.05 5.9,1.35 5.1,1.35 ; 5.1,1.85 5.9,1.85 5.9,2.15 5.1,2.15 ; 5.1,2.65 5.9,2.65 5.9,2.95 5.1,2.95 ; 5.1,3.45 5.9,3.45 5.9,3.75 5.1,3.75 ; 5.1,4.25 5.9,4.25 5.9,4.55 5.1,4.55 ; 5.1,5.05 5.9,5.05 5.9,5.35 5.1,5.35 ; 5.1,5.85 5.9,5.85 5.9,6.15 5.1,6.15 ; 5.1,6.65 5.9,6.65 5.9,6.95 5.1,6.95 ; 5.1,7.45 5.9,7.45 5.9,7.75 5.1,7.75 ; 5.1,8.25 5.9,8.25 5.9,8.55 5.1,8.55 ; -5.08,-9.525 -5.08,9.525 5.08,9.525 5.08,-9.525 -5.08,-9.525
Comp Silk:
  circle w0.18: c-3.175,8.255 r0.635
  lines w0.18: -4.445,-9.525 -4.445,9.525 4.445,9.525 4.445,-9.525 -4.445,-9.525
  text ".Designator" at -2.286,-7.493 h1.5

## TSSOP8 [mm]
height 1.27
pads (8):
  rrect50% 1.8x0.4 smd paste+0: 1(-2.99,0.975) 2(-2.99,0.325) 3(-2.99,-0.325) 4(-2.99,-0.975) 5(3,-0.975) 6(3,-0.325) 7(3,0.325) 8(3,0.975)
Top Overlay:
  circle w0.05: c-1.7,1.1 r0.25
  lines w0.05: -2.2,-1.075 -3.2,-1.075 -3.2,-0.875 -2.2,-0.875 ; -2.2,-0.425 -3.2,-0.425 -3.2,-0.225 -2.2,-0.225 ; -2.2,0.225 -3.2,0.225 -3.2,0.425 -2.2,0.425 ; -2.2,0.875 -3.2,0.875 -3.2,1.075 -2.2,1.075 ; 2.2,-1.075 3.2,-1.075 3.2,-0.875 2.2,-0.875 ; 2.2,-0.425 3.2,-0.425 3.2,-0.225 2.2,-0.225 ; 2.2,0.225 3.2,0.225 3.2,0.425 2.2,0.425 ; 2.2,0.875 3.2,0.875 3.2,1.075 2.2,1.075 ; -2.2,-1.5 -2.2,1.5 2.2,1.5 2.2,-1.5 -2.2,-1.5
Comp Silk:
  circle w0.18: c-1.2,0.9 r0.15
  lines w0.18: -1.8,-1.5 -1.8,1.5 1.8,1.5 1.8,-1.5 -1.8,-1.5
  text ".Designator" at -2.032,-0.254 h1.5

## TSSOP16 [mm]
height 1.2
pads (16):
  rrect50% 1x0.4 smd: 1(-2.9,2.275) 2(-2.9,1.625) 3(-2.9,0.975) 4(-2.9,0.325) 5(-2.9,-0.325) 6(-2.9,-0.975) 7(-2.9,-1.625) 8(-2.9,-2.275) 9(2.9,-2.275) 10(2.9,-1.625) 11(2.9,-0.975) 12(2.9,-0.325) 13(2.9,0.325) 14(2.9,0.975) 15(2.9,1.625) 16(2.9,2.275)
Top Overlay:
  circle w0.2: c-1.6,1.975 r0.1
  lines w0.05: -2.9,-2.275 -2.3,-2.275 ; -2.9,-1.625 -2.3,-1.625 ; -2.9,-0.975 -2.3,-0.975 ; -2.9,-0.325 -2.3,-0.325 ; -2.9,0.325 -2.3,0.325 ; -2.9,0.975 -2.3,0.975 ; -2.9,1.625 -2.3,1.625 ; -2.9,2.275 -2.3,2.275 ; 2.3,-2.275 2.95,-2.275 ; 2.3,-1.625 2.95,-1.625 ; 2.3,-0.975 2.95,-0.975 ; 2.3,-0.325 2.95,-0.325 ; 2.3,0.325 2.95,0.325 ; 2.3,0.975 2.95,0.975 ; 2.3,1.625 2.95,1.625 ; 2.3,2.275 2.95,2.275 ; -2.25,-2.55 -2.25,2.55 2.25,2.55 2.25,-2.55 -2.25,-2.55
  text ".Designator" at -1.575,-0.675 h1.5
Comp Silk:
  circle w0.254: c-1.575,1.975 r0.09
  lines w0.18: -2.125,2.55 2.075,2.55 2.075,-2.5 -2.1,-2.5 -2.1,2.55

## TSSOP20 [mm]
height 1.27
pads (20):
  rrect50% 1.8x0.4 smd paste+0: 1(-2.96,2.92) 2(-2.96,2.27) 3(-2.96,1.62) 4(-2.96,0.97) 5(-2.96,0.32) 6(-2.96,-0.33) 7(-2.96,-0.98) 8(-2.96,-1.63) 9(-2.96,-2.28) 10(-2.96,-2.93) 11(3,-2.93) 12(3,-2.28) 13(3,-1.63) 14(3,-0.98) 15(3,-0.33) 16(3,0.32) 17(3,0.97) 18(3,1.62) 19(3,2.27) 20(3,2.92)
Top Overlay:
  circle w0.05: c-1.5,2.55 r0.45
  lines w0.05: -2.2,-3.03 -3.2,-3.03 -3.2,-2.83 -2.2,-2.83 ; -2.2,-2.38 -3.2,-2.38 -3.2,-2.18 -2.2,-2.18 ; -2.2,-1.73 -3.2,-1.73 -3.2,-1.53 -2.2,-1.53 ; -2.2,-1.08 -3.2,-1.08 -3.2,-0.88 -2.2,-0.88 ; -2.2,-0.43 -3.2,-0.43 -3.2,-0.23 -2.2,-0.23 ; -2.2,0.22 -3.2,0.22 -3.2,0.42 -2.2,0.42 ; -2.2,0.87 -3.2,0.87 -3.2,1.07 -2.2,1.07 ; -2.2,1.52 -3.2,1.52 -3.2,1.72 -2.2,1.72 ; -2.2,2.17 -3.2,2.17 -3.2,2.37 -2.2,2.37 ; -2.2,2.82 -3.2,2.82 -3.2,3.02 -2.2,3.02 ; 2.2,-3.02 3.2,-3.02 3.2,-2.82 2.2,-2.82 ; 2.2,-2.37 3.2,-2.37 3.2,-2.17 2.2,-2.17 ; 2.2,-1.72 3.2,-1.72 3.2,-1.52 2.2,-1.52 ; 2.2,-1.07 3.2,-1.07 3.2,-0.87 2.2,-0.87 ; 2.2,-0.42 3.2,-0.42 3.2,-0.22 2.2,-0.22 ; 2.2,0.23 3.2,0.23 3.2,0.43 2.2,0.43 ; 2.2,0.88 3.2,0.88 3.2,1.08 2.2,1.08 ; 2.2,1.53 3.2,1.53 3.2,1.73 2.2,1.73 ; 2.2,2.18 3.2,2.18 3.2,2.38 2.2,2.38 ; 2.2,2.83 3.2,2.83 3.2,3.03 2.2,3.03 ; -2.2,-3.25 -2.2,3.25 2.2,3.25 2.2,-3.25 -2.2,-3.25
Comp Silk:
  circle w0.18: c-1.016,2.413 r0.381
  lines w0.18: -1.778,-3.175 -1.778,3.175 1.778,3.175 1.778,-3.175 -1.778,-3.175
  text ".Designator" at -0.127,-2.54 h1.5

## TSSOP24 [mm]
height 1.524
pads (24):
  rrect50% 1.8x0.4 smd: 1(-2.96,3.57) 2(-2.96,2.92) 3(-2.96,2.27) 4(-2.96,1.62) 5(-2.96,0.97) 6(-2.96,0.32) 7(-2.96,-0.33) 8(-2.96,-0.98) 9(-2.96,-1.63) 10(-2.96,-2.28) 11(-2.96,-2.93) 12(-2.96,-3.58) 13(3,-3.58) 14(3,-2.93) 15(3,-2.28) 16(3,-1.63) 17(3,-0.98) 18(3,-0.33) 19(3,0.32) 20(3,0.97) 21(3,1.62) 22(3,2.27) 23(3,2.92) 24(3,3.57)
Top Overlay:
  circle w0.05: c-1.466,3.302 r0.45
  lines w0.05: -2.2,-3.68 -3.2,-3.68 -3.2,-3.48 -2.2,-3.48 ; -2.2,-3.03 -3.2,-3.03 -3.2,-2.83 -2.2,-2.83 ; -2.2,-2.38 -3.2,-2.38 -3.2,-2.18 -2.2,-2.18 ; -2.2,-1.73 -3.2,-1.73 -3.2,-1.53 -2.2,-1.53 ; -2.2,-1.08 -3.2,-1.08 -3.2,-0.88 -2.2,-0.88 ; -2.2,-0.43 -3.2,-0.43 -3.2,-0.23 -2.2,-0.23 ; -2.2,0.22 -3.2,0.22 -3.2,0.42 -2.2,0.42 ; -2.2,0.87 -3.2,0.87 -3.2,1.07 -2.2,1.07 ; -2.2,1.52 -3.2,1.52 -3.2,1.72 -2.2,1.72 ; -2.2,2.17 -3.2,2.17 -3.2,2.37 -2.2,2.37 ; -2.2,2.82 -3.2,2.82 -3.2,3.02 -2.2,3.02 ; -2.2,3.47 -3.2,3.47 -3.2,3.67 -2.2,3.67 ; 2.2,-3.67 3.2,-3.67 3.2,-3.47 2.2,-3.47 ; 2.2,-3.02 3.2,-3.02 3.2,-2.82 2.2,-2.82 ; 2.2,-2.37 3.2,-2.37 3.2,-2.17 2.2,-2.17 ; 2.2,-1.72 3.2,-1.72 3.2,-1.52 2.2,-1.52 ; 2.2,-1.07 3.2,-1.07 3.2,-0.87 2.2,-0.87 ; 2.2,-0.42 3.2,-0.42 3.2,-0.22 2.2,-0.22 ; 2.2,0.23 3.2,0.23 3.2,0.43 2.2,0.43 ; 2.2,0.88 3.2,0.88 3.2,1.08 2.2,1.08 ; 2.2,1.53 3.2,1.53 3.2,1.73 2.2,1.73 ; 2.2,2.18 3.2,2.18 3.2,2.38 2.2,2.38 ; 2.2,2.83 3.2,2.83 3.2,3.03 2.2,3.03 ; 2.2,3.48 3.2,3.48 3.2,3.68 2.2,3.68 ; -2.2,-3.95 2.2,-3.95 2.2,3.95 -2.2,3.95 -2.2,-3.95
Comp Silk:
  circle w0.18: c-1.016,3.048 r0.381
  lines w0.18: -1.78,-3.87 1.78,-3.87 1.778,3.875 -1.778,3.875 -1.78,-3.87
  text ".Designator" at 0.762,-4.572 h1.5

## TSSOP50P300-54N [mm]
height 1.27
pads (54):
  rrect50% 1.65x0.3 smd paste+0: 1(-4.3,6.5) 2(-4.3,6) 3(-4.3,5.5) 4(-4.3,5) 5(-4.3,4.5) 6(-4.3,4) 7(-4.3,3.5) 8(-4.3,3) 9(-4.3,2.5) 10(-4.3,2) 11(-4.3,1.5) 12(-4.3,1) 13(-4.3,0.5) 14(-4.3,0) 15(-4.3,-0.5) 16(-4.3,-1) 17(-4.3,-1.5) 18(-4.3,-2) 19(-4.3,-2.5) 20(-4.3,-3) 21(-4.3,-3.5) 22(-4.3,-4) 23(-4.3,-4.5) 24(-4.3,-5) 25(-4.3,-5.5) 26(-4.3,-6) 27(-4.3,-6.5) 28(4.3,-6.5) 29(4.3,-6) 30(4.3,-5.5) 31(4.3,-5) 32(4.3,-4.5) 33(4.3,-4) 34(4.3,-3.5) 35(4.3,-3) 36(4.3,-2.5) 37(4.3,-2) 38(4.3,-1.5) 39(4.3,-1) 40(4.3,-0.5) 41(4.3,0) 42(4.3,0.5) 43(4.3,1) 44(4.3,1.5) 45(4.3,2) 46(4.3,2.5) 47(4.3,3) 48(4.3,3.5) 49(4.3,4) 50(4.3,4.5) 51(4.3,5) 52(4.3,5.5) 53(4.3,6) 54(4.3,6.5)
Top Overlay:
  drawing of 166 lines, arcs and shapes, not listed
Comp Silk:
  lines w0.18: -3.1,-7.2 -3.1,7.2 3.1,7.2 3.1,-7.2 -3.1,-7.2
  text ".Designator" at -1.016,-5.588 h1.5

## TSSOP50P725-56 [mm]
height 1.524
pads (56):
  rrect50% 1.65x0.3 smd paste+0: 1(-9.65,6.75) 2(-9.65,6.25) 3(-9.65,5.75) 4(-9.65,5.25) 5(-9.65,4.75) 6(-9.65,4.25) 7(-9.65,3.75) 8(-9.65,3.25) 9(-9.65,2.75) 10(-9.65,2.25) 11(-9.65,1.75) 12(-9.65,1.25) 13(-9.65,0.75) 14(-9.65,0.25) 15(-9.65,-0.25) 16(-9.65,-0.75) 17(-9.65,-1.25) 18(-9.65,-1.75) 19(-9.65,-2.25) 20(-9.65,-2.75) 21(-9.65,-3.25) 22(-9.65,-3.75) 23(-9.65,-4.25) 24(-9.65,-4.75) 25(-9.65,-5.25) 26(-9.65,-5.75) 27(-9.65,-6.25) 28(-9.65,-6.75) 29(9.65,-6.75) 30(9.65,-6.25) 31(9.65,-5.75) 32(9.65,-5.25) 33(9.65,-4.75) 34(9.65,-4.25) 35(9.65,-3.75) 36(9.65,-3.25) 37(9.65,-2.75) 38(9.65,-2.25) 39(9.65,-1.75) 40(9.65,-1.25) 41(9.65,-0.75) 42(9.65,-0.25) 43(9.65,0.25) 44(9.65,0.75) 45(9.65,1.25) 46(9.65,1.75) 47(9.65,2.25) 48(9.65,2.75) 49(9.65,3.25) 50(9.65,3.75) 51(9.65,4.25) 52(9.65,4.75) 53(9.65,5.25) 54(9.65,5.75) 55(9.65,6.25) 56(9.65,6.75)
Top Overlay:
  drawing of 173 lines, arcs and shapes, not listed
Comp Silk:
  circle w0.18: c-7.4,6.1 r0.6
  lines w0.152: -8.4,-7.1 8.4,-7.1 8.4,7.1 -8.4,7.1 -8.4,-7.1
  text ".Designator" at -7.493,4.953 h1.5